# Altium schematic symbol library Schlib1.SchLib: 24 symbols
Pins are listed as number, name and electrical type; pins without a type are passive.

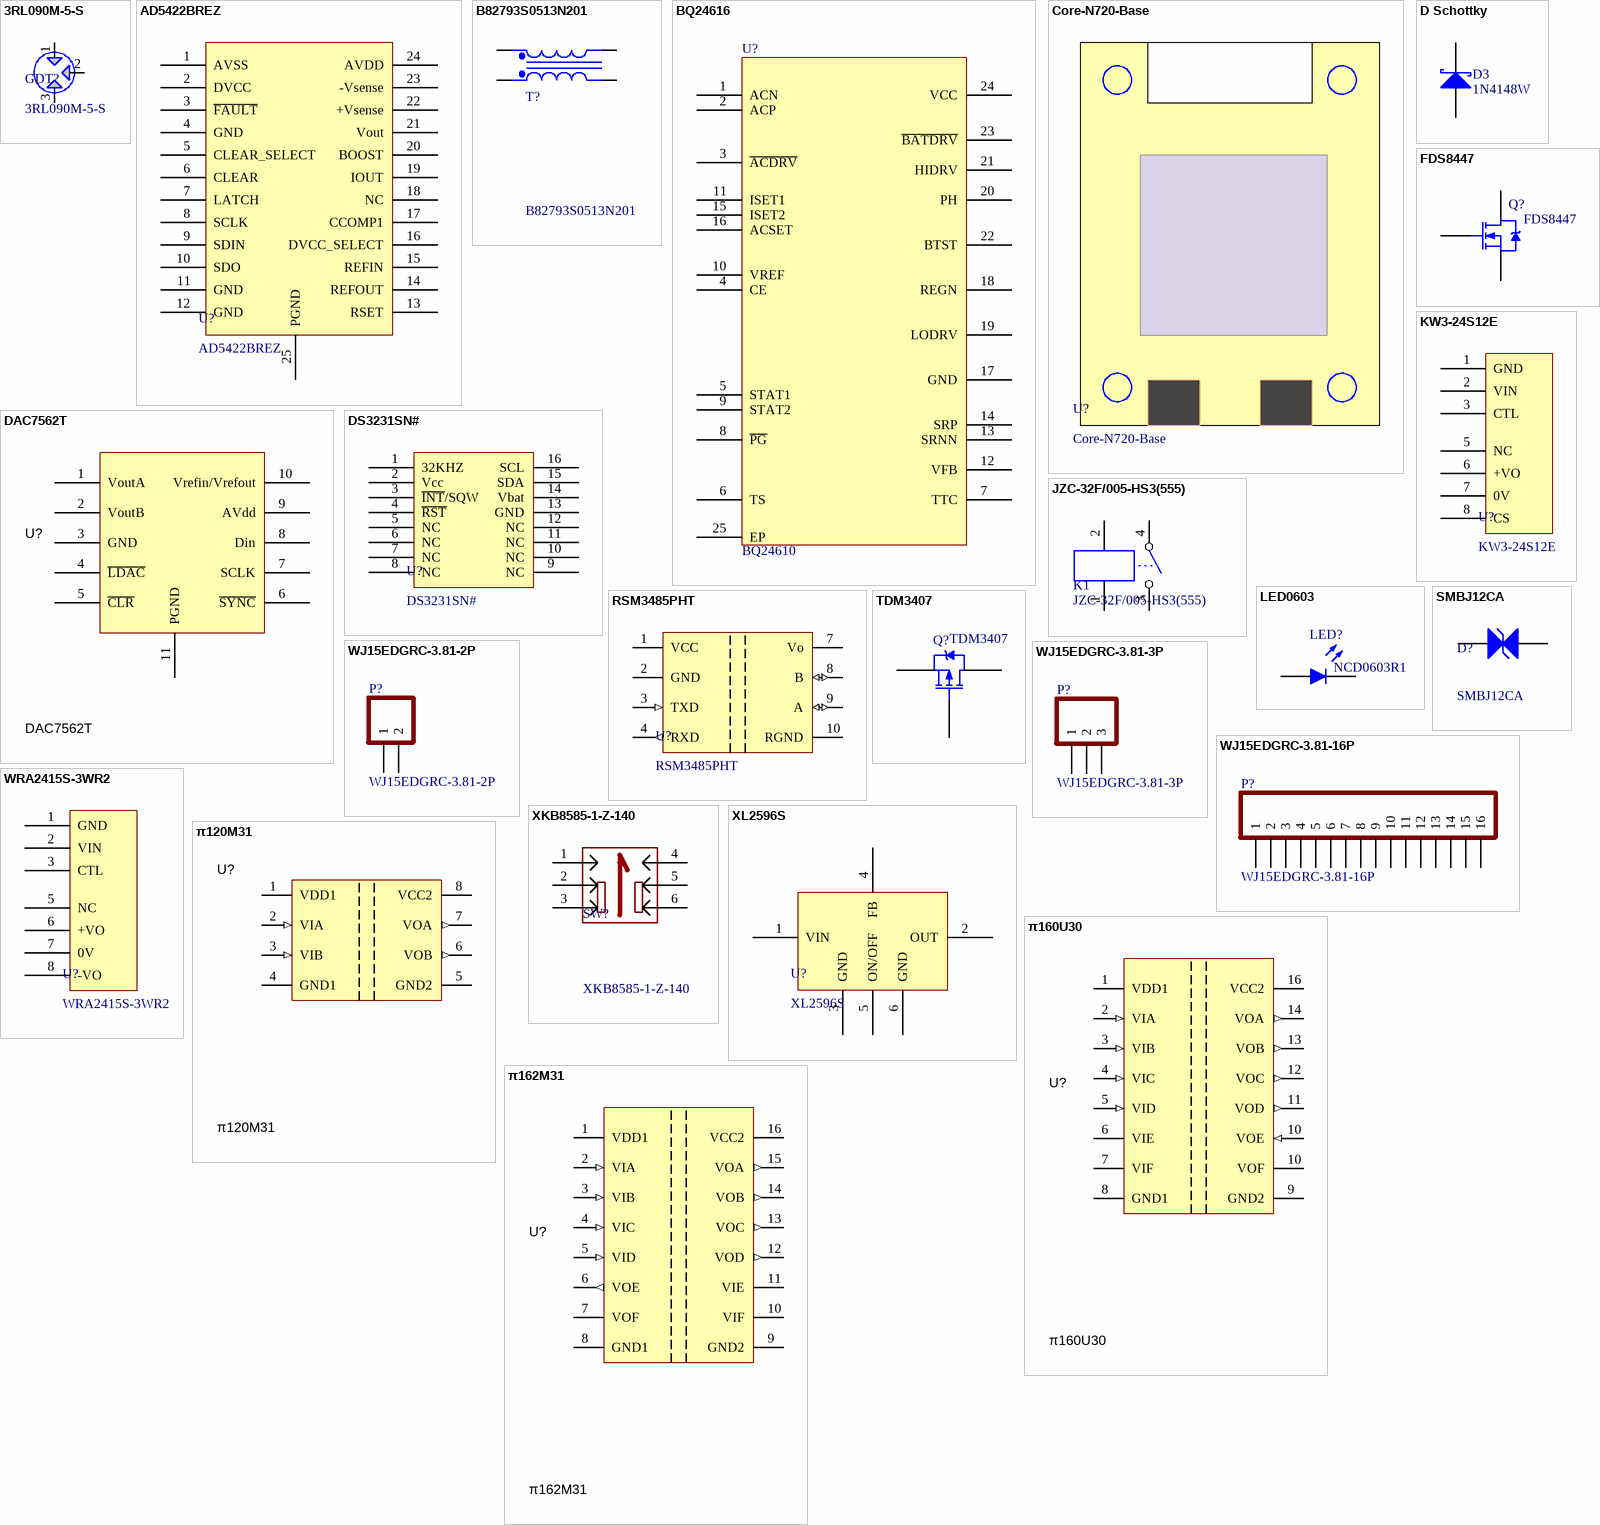
[diagram p0: symbols 3RL090M-5-S to π162M31]

## 3RL090M-5-S
designator GDT?
Gas Discharge Tube
footprint DIO-DT-SMD_L7.2-W5.0
pins: 1, 2, 3

## AD5422BREZ
designator U?
单通道、12/16位、串行输入、内置电流源 / 和电压输出DAC，具有HART连接能力
footprint TSSOP-24_L7.8-W4.4-P0.65-LS6.4-BL-EP
pins: 1 AVSS, 2 DVCC, 3 ~{FAULT}, 4 GND, 5 CLEAR_SELECT, 6 CLEAR, 7 LATCH, 8 SCLK, 9 SDIN, 10 SDO, 11 GND, 12 GND, 13 RSET, 14 REFOUT, 15 REFIN, 16 DVCC_SELECT, 17 CCOMP1, 18 NC, 19 IOUT, 20 BOOST, 21 Vout, 22 +Vsense, 23 -Vsense, 24 AVDD, 25 PGND

## B82793S0513N201
designator T?
共模电感，电感 @ 频率：51uH @ 100kHz ，直流电阻（DCR）（最大） 140mΩ
footprint FILTER-SMD_4P-L9.0-W6.0_B82790
pins: 1, 2, 3, 4

## BQ24616
designator U?, comment BQ24610
TI电源管理IC；
footprint QFN24-4*4
footprint QFN-24_L4.0-W4.0-P0.50-TL-EP2.7
pins: 1 ACN, 2 ACP, 3 ~{ACDRV}, 4 CE, 5 STAT1, 6 TS, 7 TTC, 8 ~{PG}, 9 STAT2, 10 VREF, 11 ISET1, 12 VFB, 13 SRNN, 14 SRP, 15 ISET2, 16 ACSET, 17 GND, 18 REGN, 19 LODRV, 20 PH, 21 HIDRV, 22 BTST, 23 ~{BATDRV}, 24 VCC, 25 EP

## Core-N720-Base
designator U?
Core-N720 核心板是由银尔达（yinerda）基于有方 N720 模组推出的高性能， / 小体积嵌入式 4G+GPS 定位核心版，硬件尺寸完全兼容本公司的 2G，Cat1,WIFI 核 / 心板， 最小成本的进项 2G、 4G 切换。 工作环境为-40℃-80℃， 支持 5-12V 供电， / Uart 做了电平转换， 可以直接与 3.3V MCU 使用串口进行通信， 预留 3.3V 高电平 / 复位管教， 方便异常恢复。 支持标准固件 AT 固件,支持功能电话语音、 短信、 / TCP&UDP、 、 NTP、 HTTP、 FTP、 MQTT、 直连阿里 IOT 云平台协议； 支持 GPS、 Beidou、 / GLONASS 定位功能。
footprint Core-N720-Base

## D Schottky
designator D3, comment 1N4148W
Schottky Diode; Published: 8-Jun-2000; LatestRevisionDate: 17-Jul-2002; LatestRevisionNote: Re-released for DXP Platform.; PackageReference: SMB; Publisher: Altium Limited; PackageDescription: DO-214-AA/SMB; 2 C-Bend Leads; Body 5.3 x 3.6 mm, inc. leads (LxW); Code_JEDEC: DO-214-AA
footprint 3.2X1.6X1.1
simulation model SKYDIODE (Diode)
signal-integrity model D Schottky
footprint SOD-123_L2.8-W1.8-LS3.7-RD
pins: 1 A, 2 K

## DAC7562T
designator U?
DACxx6xT 具有2.5V、4PPM/°C 内部基准和5V TTL I/O 的双路16 位、14 位、12 位低功耗电压输出DAC; Manufacturer: Texas Instruments; SymbolCreator: a0411947; CompType: IC; U/M: EA; SymbolVersion: 2013-05-30; PartNumber: DAC7562T; Alternate PartNumber: DAC7562T; PackageReference: DGK0008A; MountType: SMT; ComponentLink1Description: Datasheet Link; ComponentLink1URL: http://www.ti.com/lit/ds/symlink/dac8551.pdf; RoHS: Y; Publisher: Texas Instruments; LatestRevisionDate: 2015-10-01; Alternate Manufacturer: Texas Instruments
pins: 1 VoutA, 2 VoutB, 3 GND, 4 ~{LDAC}, 5 ~{CLR}, 6 ~{SYNC}, 7 SCLK, 8 Din, 9 AVdd, 10 Vrefin/Vrefout, 11 PGND
1 alternate drawing of the same symbol

## DS3231SN#
designator U?
高精度、I2C接口、集成RTC/TCXO/晶体
footprint SOIC-16_L10.3-W7.5-P1.27-LS10.3-BL
pins: 1 32KHZ, 2 Vcc, 3 ~{INT}/SQW, 4 ~{RST}, 5 NC, 6 NC, 7 NC, 8 NC, 9 NC, 10 NC, 11 NC, 12 NC, 13 GND, 14 Vbat, 15 SDA, 16 SCL

## FDS8447
designator Q?
N-Channel Power MOSFET; ComponentLink1Description: Manufacturer Link; ComponentLink1URL: http://www.irf.com/
footprint TO-220AB (TO, Thru-Hole, Vertical, Heatsink Mounted; 3 In-Line Leads; Pitch 2.54 mm)
footprint PowerPAK-1212-8
footprint SO8_L (SOIC, 8-Leads, Body 4.9x3.9mm, Pitch 1.27mm, IPC High Density)
pins: 1 S, 2 S, 3 S, 4 G, 5 D, 6 D, 7 D, 8 D

## JZC-32F/005-HS3(555)
designator K1
footprint RELAY-TH_JZC-32F-XXXHXX
pins: 1, 2, 3, 4

## KW3-24S12E
designator U?
3W，宽电压输入，隔离稳压输出 DC/DC 模块电源
footprint PWRM-TH_WRA2415S-3WR2
pins: 1 GND, 2 VIN, 3 CTL, 5 NC, 6 +VO, 7 0V, 8 CS

## LED0603
designator LED?, comment NCD0603R1
Typical INFRARED GaAs LED
footprint LED/0603
simulation model LED0 (Diode)
footprint LED/0603
footprint LED/0805
footprint LED0603-RD
pins: 1 K, 2 A

## RSM3485PHT
designator U?
隔离485
footprint COMM-TH_RSM3485PHT
pins: 1 VCC (power), 2 GND (power), 3 TXD (in), 4 RXD (out), 7 Vo (power), 8 B (io), 9 A (io), 10 RGND (power)

## SMBJ12CA
designator D?
Transient Voltage  Suppressors (TVS)
footprint SMB
pins: 1 A, 2 A

## TDM3407
designator Q?
P-Channel Power MOSFET
footprint SO8_L (SOIC, 8-Leads, Body 4.9x3.9mm, Pitch 1.27mm, IPC High Density)
pins: 1 S, 2 S, 3 S, 4 G, 5 D, 6 D, 7 D, 8 D

## WJ15EDGRC-3.81-2P
designator P?
LatestRevisionNote: Re-released for DXP Platform.
footprint CONN-TH_2P-P3.81_WJ15EDGRC-3.81-2P
pins: 1, 2

## WJ15EDGRC-3.81-3P
designator P?
LatestRevisionNote: Re-released for DXP Platform.
footprint CONN-TH_3P-P3.81_WJ15EDGRC-3.81-3P
pins: 1, 2, 3

## WJ15EDGRC-3.81-16P
designator P?
LatestRevisionNote: Re-released for DXP Platform.
footprint CONN-TH_16P-P3.81_WJ15EDGRC-3.81-16P
pins: 1, 2, 3, 4, 5, 6, 7, 8, 9, 10, 11, 12, 13, 14, 15, 16

## WRA2415S-3WR2
designator U?
3W，宽电压输入，隔离稳压正负双路/单路输出 DC/DC 模块电源
footprint PWRM-TH_WRA2415S-3WR2
pins: 1 GND, 2 VIN, 3 CTL, 5 NC, 6 +VO, 7 0V, 8 -VO

## XKB8585-1-Z-140
designator SW?
按键开关 六脚 外扣 有声自锁
footprint SW-TH_6P-L8.6-W8.6-P2.50-LS5.4
pins: 1, 2, 3, 4, 5, 6

## XL2596S
designator U?
3A 150KHz 40V Buck DC to DC Converter
footprint TO-263-5_L10.6-W9.6-P1.70-LS15.9-TL
pins: 1 VIN, 2 OUT, 3 GND, 4 FB, 5 ON/OFF, 6 GND

## π120M31
designator U?
Robust EMC, Low Power, 2 Channel Digital Isolators.; ComponentLink1Description: Datasheet Link; ComponentLink1URL: http://www.ti.com/lit/ds/symlink/iso7340c.pdf
pins: 1 VDD1 (power), 2 VIA (in), 3 VIB (in), 4 GND1 (power), 5 GND2 (power), 6 VOB (out), 7 VOA (out), 8 VCC2 (power)

## π160U30
designator U?
Robust EMC, Low Power, 6 Channel Digital Isolators.; ComponentLink1Description: Datasheet Link; ComponentLink1URL: http://www.ti.com/lit/ds/symlink/iso7340c.pdf
pins: 1 VDD1 (power), 2 VIA (in), 3 VIB (in), 4 VIC (in), 5 VID (in), 6 VIE, 7 VIF (power), 8 GND1 (power), 9 GND2 (power), 10 VOE (in), 10 VOF (power), 11 VOD (out), 12 VOC (out), 13 VOB (out), 14 VOA (out), 16 VCC2 (power)

## π162M31
designator U?
Robust EMC, Low Power, 4 Out Channel, 2 Input Channel Digital Isolators.; ComponentLink1Description: Datasheet Link; ComponentLink1URL: http://www.ti.com/lit/ds/symlink/iso7340c.pdf
pins: 1 VDD1 (power), 2 VIA (in), 3 VIB (in), 4 VIC (in), 5 VID (in), 6 VOE (out), 7 VOF (power), 8 GND1 (power), 9 GND2 (power), 10 VIF (power), 11 VIE, 12 VOD (out), 13 VOC (out), 14 VOB (out), 15 VOA (out), 16 VCC2 (power)